# EAGLE library part DIN5 (library parts)
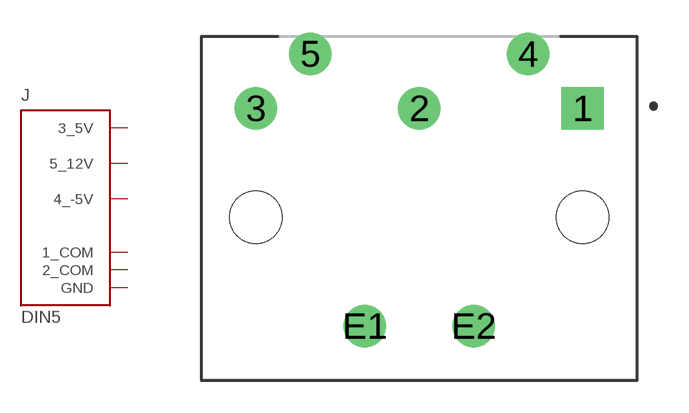
[diagram p0: symbol with the pads of CUI_SDS-50J; footprint CUI_SDS-50J]

Designator prefix J

## DIN5 (CUI_PURCHASE_URL: https://www.cuidevices.com/product/interconnect/connectors/din-connectors/sds-j-series?utm_source=snapeda.com&utm_medium=referral&utm_campaign=snapedaBOM; DESCRIPTION: 3~13 Positions, Receptacle, Right Angle, Through Hole, Standard Circular DIN Connector; DIGI-KEY_PART_NUMBER: CP-2350-ND; MF: CUI Devices; MP: SDS-50J; PACKAGE: None; PURCHASE-URL: https://pricing.snapeda.com/search/part/SDS-50J/?ref=eda)  [CUI_SDS-50J]
1  1_COM  pas
2  2_COM  pas
3  3_5V  pas
4  4_-5V  pas
5  5_12V  pas
E1  GND  pwr
E2  GND  pwr

## Footprint CUI_SDS-50J (pad centres in mm)
drill 1.3 square: 1 7.5,5
drill 1.3: 2 0,5; 3 -7.5,5; 4 5,7.5; 5 -5,7.5; E1 -2.5,-5; E2 2.5,-5
hole 2.4 at 7.5,0
hole 2.4 at -7.5,0